# EAGLE library part 74AUC00 (library 00_koarl-div)
Quad 2-input NAND gate
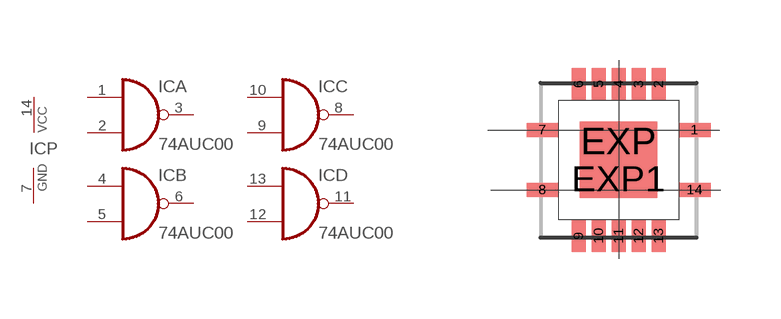
[diagram p2: symbol with the pads of QFN14; footprint QFN14]

Designator prefix IC; gates A=7400 B=7400 C=7400 D=7400 P=PWRN

## 74AUC00  [QFN14]
1  A:I0  in
2  A:I1  in
3  A:O  out
4  B:I0  in
5  B:I1  in
6  B:O  out
7  P:GND  pwr
8  C:O  out
9  C:I1  in
10  C:I0  in
11  D:O  out
12  D:I1  in
13  D:I0  in
14  P:VCC  pwr

## Footprint QFN14 (pad centres in mm)
16-Lead Plastic Quad Flat, No Lead Package (ML) - 4x4x0.9mm Body [QFN] Source: http://ww1.microchip.com/downloads/en/DeviceDoc/41203E.pdf
smd 0.8 x 0.35: 1 1.9,0.75; 7 -1.9,0.75; 8 -1.9,-0.75; 14 1.9,-0.75
smd 0.35 x 0.8: 2 1,1.9; 3 0.5,1.9; 4 0,1.9; 5 -0.5,1.9; 6 -1,1.9; 9 -1,-1.9; 10 -0.5,-1.9; 11 0,-1.9; 12 0.5,-1.9; 13 1,-1.9
smd 1.93 x 0.965: EXP 0,0.475; EXP1 0,-0.475